# EAGLE library part MAX890L (library OSSI)
MAX 890L 1.2A, Current-Limited, High-Side P-Channel Switch with Thermal Shutdown BY MAXIM
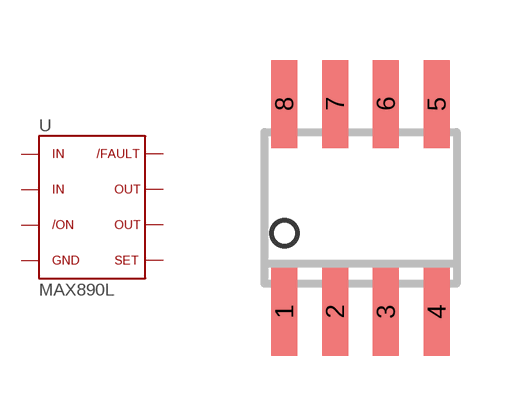
[diagram p0: symbol with the pads of SO8; footprint SO8]

Designator prefix U

## MAX890L  [SO8]
1  P$1  in
2  P$2  in
3  P$3  in
4  P$4  pwr
5  P$5  pas
6  P$6  out
7  P$7  out
8  P$8  out

## Footprint SO8 (pad centres in mm)
smd 0.65 x 2.2: 1 -1.905,-2.6; 2 -0.635,-2.6; 3 0.635,-2.6; 4 1.905,-2.6; 5 1.905,2.6; 6 0.635,2.6; 7 -0.635,2.6; 8 -1.905,2.6